# EAGLE library part CD74HC193E (library CD74HC193E)
Counter Single 4-Bit Sync Binary UP/Down CD74HC193E, 4-stage Binary Counter Up/Down Counter, Bi-Directional, 2 6 V, 16-Pin PDIP Source: Datasheet <http://www.ti.com/lit/ds/symlink/cd74hc192.pdf>
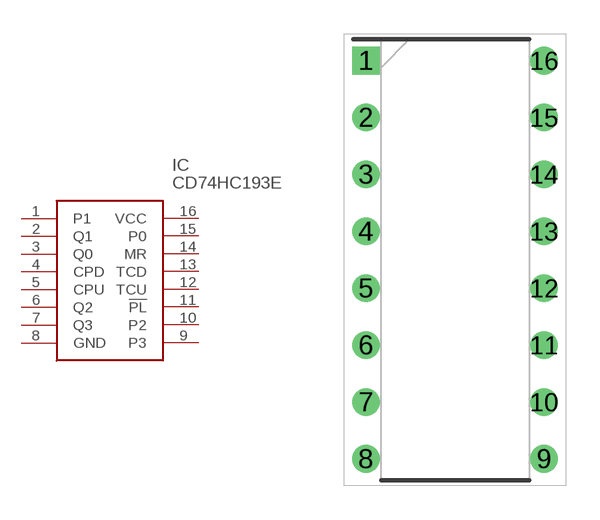
[diagram p0: symbol with the pads of DIP794W53P254L1930H508Q16N; footprint DIP794W53P254L1930H508Q16N]

Designator prefix IC

## CD74HC193E (Description: Counter Single 4-Bit Sync Binary UP/Down CD74HC193E, 4-stage Binary Counter Up/Down Counter, Bi-Directional, 2 6 V, 16-Pin PDIP; Height: 5.08mm; Manufacturer_Name: Texas Instruments; Manufacturer_Part_Number: CD74HC193E; Mouser_Part_Number: 595-CD74HC193E; Mouser_Price-Stock: https://www.mouser.co.uk/ProductDetail/Texas-Instruments/CD74HC193E/?qs=YxwvVplHM%2FnIFxccYhgPNA%3D%3D)  [DIP794W53P254L1930H508Q16N]
1  P1
2  Q1
3  Q0
4  CPD
5  CPU
6  Q2
7  Q3
8  GND
9  P3
10  P2
11  !PL
12  TCU
13  TCD
14  MR
15  P0
16  VCC

## Footprint DIP794W53P254L1930H508Q16N (pad centres in mm)
PDIP 16
drill 0.73 pad 1.13 square: 1 -3.97,8.89
drill 0.73 pad 1.13: 2 -3.97,6.35; 3 -3.97,3.81; 4 -3.97,1.27; 5 -3.97,-1.27; 6 -3.97,-3.81; 7 -3.97,-6.35; 8 -3.97,-8.89; 9 3.97,-8.89; 10 3.97,-6.35; 11 3.97,-3.81; 12 3.97,-1.27; 13 3.97,1.27; 14 3.97,3.81; 15 3.97,6.35; 16 3.97,8.89